# Altium footprint library CAP POL ALU 6.3x5.8.PcbLib: 1 footprints
Each footprint in its own frame and in the unit in brackets; x right, y up, seen from the top. Pads: shape width x height; smd on the part's side, far side on the other; paste and mask are expansions set on the pad; w line width, h text height; cw(c..) or ccw(c..) is an arc to the next point about the centre after c.
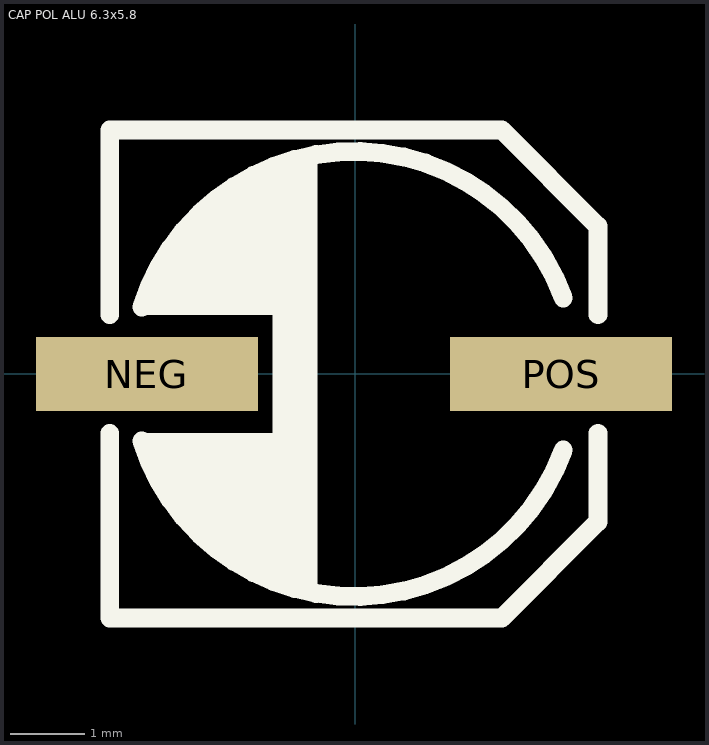
[diagram p0: the footprint, top view; thin cyan lines are the x and y axes]

## CAP POL ALU 6.3x5.8 [mm]
pads (2):
  rect 3x1 smd: NEG(-2.818,-0.003) POS(2.782,-0.003)
Top Overlay:
  region: -0.518,2.997 -0.518,-2.903 -0.518,-3.003 -0.518,-2.903 -1.118,-2.803 -1.618,-2.603 -1.918,-2.303 -2.218,-2.103 -2.518,-1.803 -2.718,-1.403 -2.918,-0.803 -1.118,-0.803 -1.118,0.797 -2.918,0.797 -2.818,0.997 -2.718,1.397 -2.418,1.697 -2.218,2.097 -1.818,2.397 -1.418,2.597 -1.018,2.797
  lines w0.254: -3.32,-0.803 -3.32,-3.302 1.978,-3.302 3.279,-2.002 3.279,-0.803 ; -3.32,0.797 -3.32,3.297 1.978,3.297 3.279,1.996 3.279,0.797 ; -2.887,-0.907 ccw(c-0.018,-0.003) 2.809,-1.031 ; -2.887,0.902 cw(c-0.018,-0.002) 2.809,1.026
3D body "User Library-ALU-D.STEP": height 5.4, standoff 0, extent -3.5,-3.3 3.5,3.3